# Altium footprint library TO127P1490X440-8_7N.PcbLib: 1 footprints
Each footprint in its own frame and in the unit in brackets; x right, y up, seen from the top. Pads: shape width x height; smd on the part's side, far side on the other; paste and mask are expansions set on the pad; w line width, h text height; cw(c..) or ccw(c..) is an arc to the next point about the centre after c.
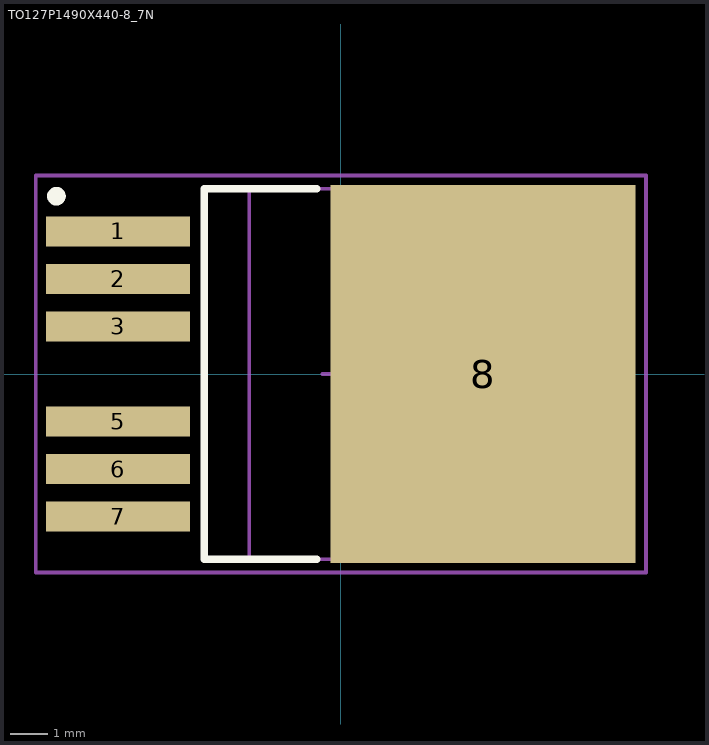
[diagram p0: the footprint, top view; thin cyan lines are the x and y axes]

## TO127P1490X440-8_7N [mm] "TO,1.27mm pitch;7 pin,14.90mm L X 9.20mm W X 4.40mm H body"
height 4.4
pads (7):
  rect 3.85x0.8 smd paste+0 mask+0: 1(-5.95,3.81) 2(-5.95,2.54) 3(-5.95,1.27) 5(-5.95,-1.27) 6(-5.95,-2.54) 7(-5.95,-3.81)
  rect 8.15x10.1 smd paste+0 mask+0: 8(3.8,0)
Top Overlay:
  circle w0.25: c-7.6,4.75 r0.125
  lines w0.2: -0.65,-4.95 -3.65,-4.95 -3.65,4.95 -0.65,4.95
M3 (ASY_Text_Top):
  text ".DESIGNATOR" at 0,0 h1.2
M13 (CMP_Body_OTL_Top):
  lines w0.1: 6.75,-4.95 6.981,-4.95 7.45,-4.43 7.45,4.43 6.981,4.95 6.75,4.95 ; 6.75,-4.95 6.75,4.95 ; 6.75,-4.95 -2.45,-4.95 -2.45,4.95 6.75,4.95
M15 (CMP_Courtyard_Top):
  lines w0.1: -0.5,0 0.5,0 ; 0,-0.5 0,0.5 ; -8.15,-5.3 -8.15,5.3 8.15,5.3 8.15,-5.3 -8.15,-5.3
3D body "PG-TO263-7-2_C63078-A6551-C013-03-0004.stp": height 4.51, standoff 0, extent -7.475,-5 7.475,5